# EAGLE library part LTC3203-1 (library PowerProducts)
LT-Spice library generated with : ltspice.ulp from: D:/Program Files (x86)/LTC/LTspiceIV/lib/sym/PowerProducts/LTC3203B*.asy at 07.10.2012 17:18:51
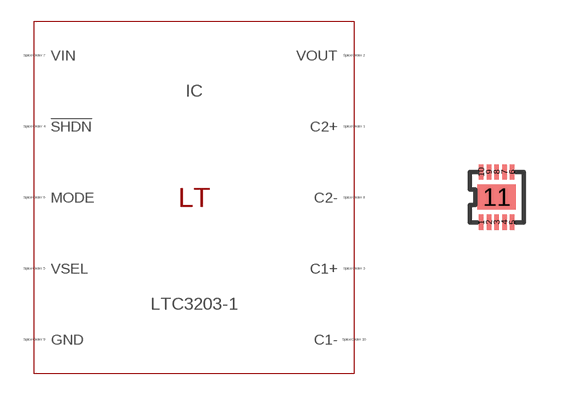
[diagram p128: symbol with the pads of DFN10(DD); footprint DFN10(DD)]

Designator prefix IC

## LTC3203-1 (SPICEMODEL: LTC3203-1.sub; SPICEPREFIX: X; VALUE2: LTC3203-1)  [DFN10(DD)]
1  C2+  pas
2  VOUT  pas
3  C1+  pas
4  !SHDN  pas
5  VSEL  pas
6  MODE  pas
7  VIN  pas
8  C2-  pas
9  GND  pas
10  C1-  pas
11  GND  pas

## Footprint DFN10(DD) (pad centres in mm)
Package generated from: DFN10(DD).asc (!PADS-POWERPCB-V9.3-BASIC! DESIGN DATABASE ASCII FILE 1.0) with :import-pads-powerpcb-v5.ulp Version 1.0.1 at 04.10.2012 14:11:16
smd 0.116 x 0.387: 1 -0.387,-0.629; 2 -0.194,-0.629; 3 0,-0.629; 4 0.194,-0.629; 5 0.387,-0.629; 6 0.387,0.629; 7 0.194,0.629; 8 0,0.629; 9 -0.194,0.629; 10 -0.387,0.629
smd 0.968 x 0.629: 11 0,0